# Altium integrated library 5029.IntLib: 1 symbol
Pins are listed as number, name and electrical type; pins without a type are passive.

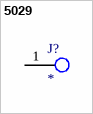
[diagram p0: symbol 5029]

## 5029
designator J?
footprint 5029
footprint EXPOSED PAD 0.02X0.02
footprint Exposed Pad 0.3x0.3
pins: 1